# EAGLE library part SSW-110-01-G-D (library SSW-110-01-G-D)
CONN SOCKET, 2.54MM, 2X10WAY Source: Datasheet
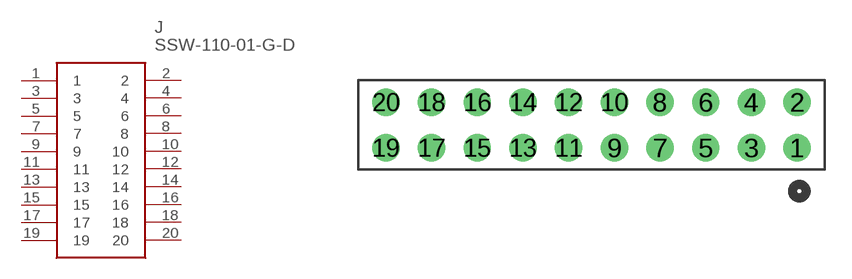
[diagram p0: symbol with the pads of SAMTEC_SSW-110-01-G; footprint SAMTEC_SSW-110-01-G]

Designator prefix J

## SSW-110-01-G-D (Arrow_Part_Number: SSW-110-01-G-D; Arrow_Price-Stock: https://www.arrow.com/en/products/ssw-110-01-g-d/samtec; Description: CONN SOCKET, 2.54MM, 2X10WAY; Height: mm; Manufacturer_Name: SAMTEC; Manufacturer_Part_Number: SSW-110-01-G-D; RS_Part_Number: 7655727P; RS_Price-Stock: http://uk.rs-online.com/web/p/products/7655727P)  [SAMTEC_SSW-110-01-G]
1  1
2  2
3  3
4  4
5  5
6  6
7  7
8  8
9  9
10  10
11  11
12  12
13  13
14  14
15  15
16  16
17  17
18  18
19  19
20  20

## Footprint SAMTEC_SSW-110-01-G (pad centres in mm)
SAMTEC_SSW-110-01-G-D
drill 1.016 pad 1.524: 1 22.86,-2.54; 2 22.86,0; 3 20.32,-2.54; 4 20.32,0; 5 17.78,-2.54; 6 17.78,0; 7 15.24,-2.54; 8 15.24,0; 9 12.7,-2.54; 10 12.7,0; 11 10.16,-2.54; 12 10.16,0; 13 7.62,-2.54; 14 7.62,0; 15 5.08,-2.54; 16 5.08,0; 17 2.54,-2.54; 18 2.54,0; 19 0,-2.54; 20 0,0